# Altium integrated library ST Logic Decoder.IntLib: 88 symbols (part 1 of 2)
Pins are listed as number, name and electrical type; pins without a type are passive.

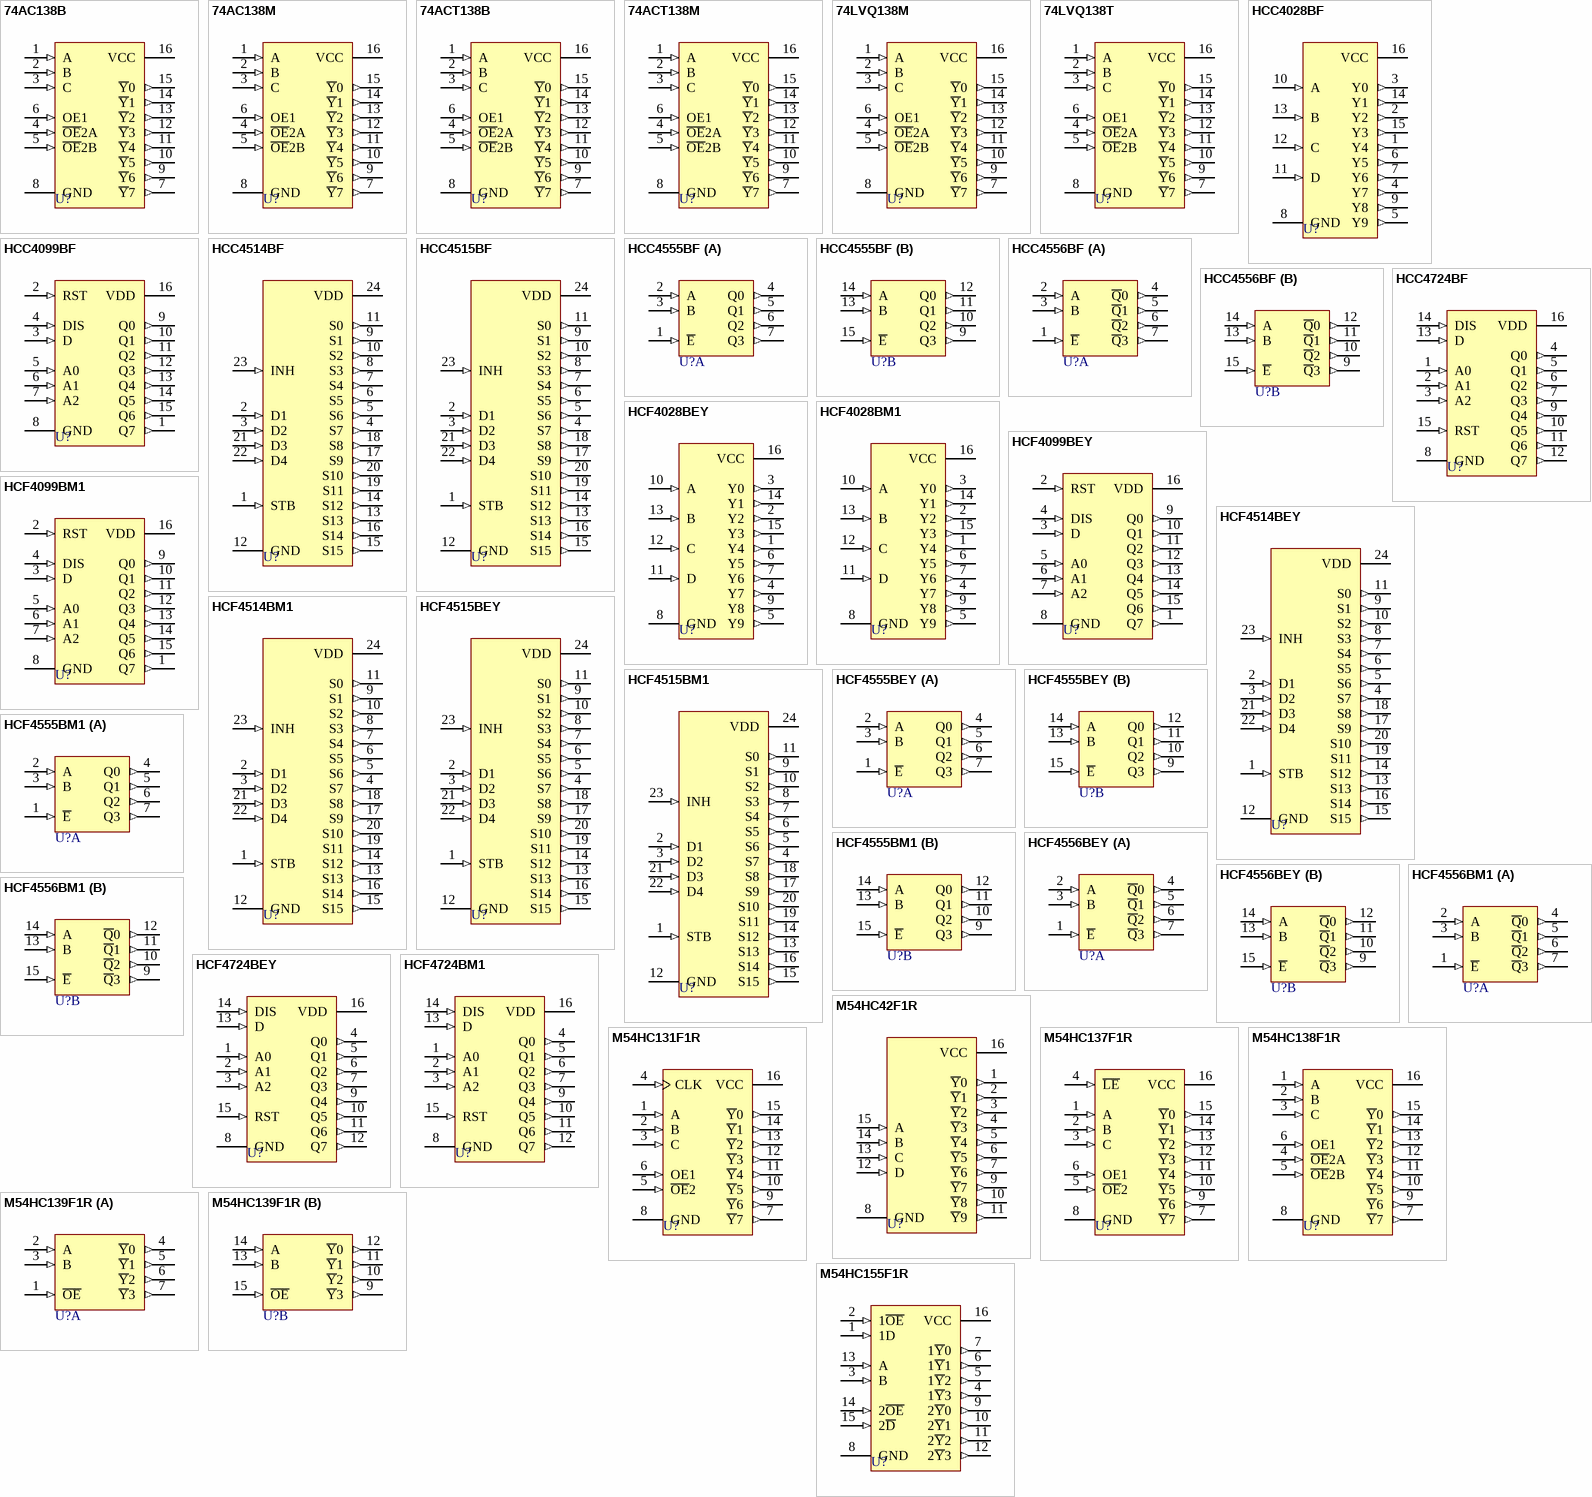
[diagram p0: symbols 74AC138B to M54HC155F1R]

## 74AC138B
designator U?
3-to-8 Line Decoder Inverting; Published: 8-Jun-2000; LatestRevisionDate: 17-Jul-2002; LatestRevisionNote: Re-released for DXP Platform.; DatasheetDocument: Apr-1997; PackageDocument: Apr-1996; PackageReference: DIP16; Publisher: Altium Limited
footprint DIP16 (DIP; 16 Leads; Row Spacing 7.62 mm; Pitch 2.54 mm)
signal-integrity model 74AC138B
pins: 1 A (in), 2 B (in), 3 C (in), 4 ~{OE}2A (in), 5 ~{OE}2B (in), 6 OE1 (in), 7 ~{Y}7 (out), 8 GND (power), 9 ~{Y}6 (out), 10 ~{Y}5 (out), 11 ~{Y}4 (out), 12 ~{Y}3 (out), 13 ~{Y}2 (out), 14 ~{Y}1 (out), 15 ~{Y}0 (out), 16 VCC (power)

## 74AC138M
designator U?
3-to-8 Line Decoder Inverting; Published: 8-Jun-2000; LatestRevisionDate: 17-Jul-2002; LatestRevisionNote: Re-released for DXP Platform.; DatasheetDocument: Apr-1997; PackageDocument: May-1998; PackageReference: SO16; Publisher: Altium Limited
footprint SO16 (Small Outline; 16 Leads; Body Width 3.9 mm; Pitch 1.27 mm)
signal-integrity model 74AC138M
pins: 1 A (in), 2 B (in), 3 C (in), 4 ~{OE}2A (in), 5 ~{OE}2B (in), 6 OE1 (in), 7 ~{Y}7 (out), 8 GND (power), 9 ~{Y}6 (out), 10 ~{Y}5 (out), 11 ~{Y}4 (out), 12 ~{Y}3 (out), 13 ~{Y}2 (out), 14 ~{Y}1 (out), 15 ~{Y}0 (out), 16 VCC (power)

## 74ACT138B
designator U?
3-to-8 Line Decoder Inverting; Published: 8-Jun-2000; LatestRevisionDate: 17-Jul-2002; LatestRevisionNote: Re-released for DXP Platform.; DatasheetDocument: Apr-1997; PackageDocument: Apr-1996; PackageReference: DIP16; Publisher: Altium Limited
footprint DIP16 (DIP; 16 Leads; Row Spacing 7.62 mm; Pitch 2.54 mm)
signal-integrity model 74ACT138B
pins: 1 A (in), 2 B (in), 3 C (in), 4 ~{OE}2A (in), 5 ~{OE}2B (in), 6 OE1 (in), 7 ~{Y}7 (out), 8 GND (power), 9 ~{Y}6 (out), 10 ~{Y}5 (out), 11 ~{Y}4 (out), 12 ~{Y}3 (out), 13 ~{Y}2 (out), 14 ~{Y}1 (out), 15 ~{Y}0 (out), 16 VCC (power)

## 74ACT138M
designator U?
3-to-8 Line Decoder Inverting; Published: 8-Jun-2000; LatestRevisionDate: 17-Jul-2002; LatestRevisionNote: Re-released for DXP Platform.; DatasheetDocument: Apr-1997; PackageDocument: May-1998; PackageReference: SO16; Publisher: Altium Limited
footprint SO16 (Small Outline; 16 Leads; Body Width 3.9 mm; Pitch 1.27 mm)
signal-integrity model 74ACT138M
pins: 1 A (in), 2 B (in), 3 C (in), 4 ~{OE}2A (in), 5 ~{OE}2B (in), 6 OE1 (in), 7 ~{Y}7 (out), 8 GND (power), 9 ~{Y}6 (out), 10 ~{Y}5 (out), 11 ~{Y}4 (out), 12 ~{Y}3 (out), 13 ~{Y}2 (out), 14 ~{Y}1 (out), 15 ~{Y}0 (out), 16 VCC (power)

## 74LVQ138M
designator U?
3-to-8 Line Decoder Inverting; Published: 8-Jun-2000; LatestRevisionDate: 17-Jul-2002; LatestRevisionNote: Re-released for DXP Platform.; DatasheetDocument: Feb-1999; PackageDocument: May-1998; PackageReference: SO16; Publisher: Altium Limited
footprint SO16 (Small Outline; 16 Leads; Body Width 3.9 mm; Pitch 1.27 mm)
pins: 1 A (in), 2 B (in), 3 C (in), 4 ~{OE}2A (in), 5 ~{OE}2B (in), 6 OE1 (in), 7 ~{Y}7 (out), 8 GND (power), 9 ~{Y}6 (out), 10 ~{Y}5 (out), 11 ~{Y}4 (out), 12 ~{Y}3 (out), 13 ~{Y}2 (out), 14 ~{Y}1 (out), 15 ~{Y}0 (out), 16 VCC (power)

## 74LVQ138T
designator U?
3-to-8 Line Decoder Inverting; Published: 8-Jun-2000; LatestRevisionDate: 17-Jul-2002; LatestRevisionNote: Re-released for DXP Platform.; DatasheetDocument: Feb-1999; PackageReference: TSSOP16A; Publisher: Altium Limited
footprint TSSOP16A (Shrink Small Outline; 16 Leads; Body Width 4.4 mm; Pitch 0.65 mm)
pins: 1 A (in), 2 B (in), 3 C (in), 4 ~{OE}2A (in), 5 ~{OE}2B (in), 6 OE1 (in), 7 ~{Y}7 (out), 8 GND (power), 9 ~{Y}6 (out), 10 ~{Y}5 (out), 11 ~{Y}4 (out), 12 ~{Y}3 (out), 13 ~{Y}2 (out), 14 ~{Y}1 (out), 15 ~{Y}0 (out), 16 VCC (power)

## HCC4028BF
designator U?
BCD-to-Decimal Decoder; Published: 8-Jun-2000; LatestRevisionDate: 17-Jul-2002; LatestRevisionNote: Re-released for DXP Platform.; DatasheetDocument: Jun-1989; PackageDocument: Apr-1996; PackageReference: DIP16; Publisher: Altium Limited
footprint DIP16 (DIP; 16 Leads; Row Spacing 7.62 mm; Pitch 2.54 mm)
simulation model HCC4028 (SIMCODE)
pins: 1 Y4 (out), 2 Y2 (out), 3 Y0 (out), 4 Y7 (out), 5 Y9 (out), 6 Y5 (out), 7 Y6 (out), 8 GND (power), 9 Y8 (out), 10 A (in), 11 D (in), 12 C (in), 13 B (in), 14 Y1 (out), 15 Y3 (out), 16 VCC (power)

## HCC4099BF
designator U?
8-Bit Addressable Latch; Published: 8-Jun-2000; LatestRevisionDate: 17-Jul-2002; LatestRevisionNote: Re-released for DXP Platform.; DatasheetDocument: Sep-1988; PackageDocument: Apr-1996; PackageReference: DIP16; Publisher: Altium Limited
footprint DIP16 (DIP; 16 Leads; Row Spacing 7.62 mm; Pitch 2.54 mm)
pins: 1 Q7 (out), 2 RST (in), 3 D (in), 4 DIS (in), 5 A0 (in), 6 A1 (in), 7 A2 (in), 8 GND (power), 9 Q0 (out), 10 Q1 (out), 11 Q2 (out), 12 Q3 (out), 13 Q4 (out), 14 Q5 (out), 15 Q6 (out), 16 VDD (power)

## HCC4514BF
designator U?
4-Bit Latch/4-to-16 Line Decoder; Published: 8-Jun-2000; LatestRevisionDate: 17-Jul-2002; LatestRevisionNote: Re-released for DXP Platform.; DatasheetDocument: Jun-1989; PackageDocument: Sep-1988; PackageReference: CDIP24; Publisher: Altium Limited
footprint CDIP24 (DIP; 24 Leads; Row Spacing 15.24 mm; Pitch 2.54 mm)
simulation model HCC4514 (SIMCODE)
pins: 1 STB (in), 2 D1 (in), 3 D2 (in), 4 S7 (out), 5 S6 (out), 6 S5 (out), 7 S4 (out), 8 S3 (out), 9 S1 (out), 10 S2 (out), 11 S0 (out), 12 GND (power), 13 S13 (out), 14 S12 (out), 15 S15 (out), 16 S14 (out), 17 S9 (out), 18 S8 (out), 19 S11 (out), 20 S10 (out), 21 D3 (in), 22 D4 (in), 23 INH (in), 24 VDD (power)

## HCC4515BF
designator U?
4-Bit Latch/4-to-16 Line Decoder; Published: 8-Jun-2000; LatestRevisionDate: 17-Jul-2002; LatestRevisionNote: Re-released for DXP Platform.; DatasheetDocument: Jun-1989; PackageDocument: Sep-1988; PackageReference: CDIP24; Publisher: Altium Limited
footprint CDIP24 (DIP; 24 Leads; Row Spacing 15.24 mm; Pitch 2.54 mm)
simulation model HCC4515 (SIMCODE)
pins: 1 STB (in), 2 D1 (in), 3 D2 (in), 4 S7 (out), 5 S6 (out), 6 S5 (out), 7 S4 (out), 8 S3 (out), 9 S1 (out), 10 S2 (out), 11 S0 (out), 12 GND (power), 13 S13 (out), 14 S12 (out), 15 S15 (out), 16 S14 (out), 17 S9 (out), 18 S8 (out), 19 S11 (out), 20 S10 (out), 21 D3 (in), 22 D4 (in), 23 INH (in), 24 VDD (power)

## HCC4555BF
designator U?
Dual Binary to 1 of 4 Decoder/Demultiplexers; Published: 8-Jun-2000; LatestRevisionDate: 17-Jul-2002; LatestRevisionNote: Re-released for DXP Platform.; DatasheetDocument: Jun-1989; PackageDocument: Apr-1996; PackageReference: DIP16; Publisher: Altium Limited
footprint DIP16 (DIP; 16 Leads; Row Spacing 7.62 mm; Pitch 2.54 mm)
simulation model HCC4555 (SIMCODE)
pins on every part: 8 GND (power) hidden to GND, 16 VDD (power) hidden to VDD
part A pins: 1 ~{E} (in), 2 A (in), 3 B (in), 4 Q0 (out), 5 Q1 (out), 6 Q2 (out), 7 Q3 (out)
part B pins: 9 Q3 (out), 10 Q2 (out), 11 Q1 (out), 12 Q0 (out), 13 B (in), 14 A (in), 15 ~{E} (in)

## HCC4556BF
designator U?
Dual Binary to 1 of 4 Decoder/Demultiplexers; Published: 8-Jun-2000; LatestRevisionDate: 17-Jul-2002; LatestRevisionNote: Re-released for DXP Platform.; DatasheetDocument: Jun-1989; PackageDocument: Apr-1996; PackageReference: DIP16; Publisher: Altium Limited
footprint DIP16 (DIP; 16 Leads; Row Spacing 7.62 mm; Pitch 2.54 mm)
simulation model HCC4556 (SIMCODE)
pins on every part: 8 GND (power) hidden to GND, 16 VDD (power) hidden to VDD
part A pins: 1 ~{E} (in), 2 A (in), 3 B (in), 4 ~{Q}0 (out), 5 ~{Q}1 (out), 6 ~{Q}2 (out), 7 ~{Q}3 (out)
part B pins: 9 ~{Q}3 (out), 10 ~{Q}2 (out), 11 ~{Q}1 (out), 12 ~{Q}0 (out), 13 B (in), 14 A (in), 15 ~{E} (in)

## HCC4724BF
designator U?
8-Bit Addressable Latch; Published: 8-Jun-2000; LatestRevisionDate: 17-Jul-2002; LatestRevisionNote: Re-released for DXP Platform.; DatasheetDocument: Sep-1988; PackageDocument: Apr-1996; PackageReference: DIP16; Publisher: Altium Limited
footprint DIP16 (DIP; 16 Leads; Row Spacing 7.62 mm; Pitch 2.54 mm)
pins: 1 A0 (in), 2 A1 (in), 3 A2 (in), 4 Q0 (out), 5 Q1 (out), 6 Q2 (out), 7 Q3 (out), 8 GND (power), 9 Q4 (out), 10 Q5 (out), 11 Q6 (out), 12 Q7 (out), 13 D (in), 14 DIS (in), 15 RST (in), 16 VDD (power)

## HCF4028BEY
designator U?
BCD-to-Decimal Decoder; Published: 8-Jun-2000; LatestRevisionDate: 17-Jul-2002; LatestRevisionNote: Re-released for DXP Platform.; DatasheetDocument: Jun-1989; PackageDocument: Apr-1996; PackageReference: DIP16; Publisher: Altium Limited
footprint DIP16 (DIP; 16 Leads; Row Spacing 7.62 mm; Pitch 2.54 mm)
simulation model HCF4028 (SIMCODE)
pins: 1 Y4 (out), 2 Y2 (out), 3 Y0 (out), 4 Y7 (out), 5 Y9 (out), 6 Y5 (out), 7 Y6 (out), 8 GND (power), 9 Y8 (out), 10 A (in), 11 D (in), 12 C (in), 13 B (in), 14 Y1 (out), 15 Y3 (out), 16 VCC (power)

## HCF4028BM1
designator U?
BCD-to-Decimal Decoder; Published: 8-Jun-2000; LatestRevisionDate: 17-Jul-2002; LatestRevisionNote: Re-released for DXP Platform.; DatasheetDocument: Jun-1989; PackageDocument: May-1998; PackageReference: SO16; Publisher: Altium Limited
footprint SO16 (Small Outline; 16 Leads; Body Width 3.9 mm; Pitch 1.27 mm)
simulation model HCF4028 (SIMCODE)
pins: 1 Y4 (out), 2 Y2 (out), 3 Y0 (out), 4 Y7 (out), 5 Y9 (out), 6 Y5 (out), 7 Y6 (out), 8 GND (power), 9 Y8 (out), 10 A (in), 11 D (in), 12 C (in), 13 B (in), 14 Y1 (out), 15 Y3 (out), 16 VCC (power)

## HCF4099BEY
designator U?
8-Bit Addressable Latch; Published: 8-Jun-2000; LatestRevisionDate: 17-Jul-2002; LatestRevisionNote: Re-released for DXP Platform.; DatasheetDocument: Sep-1988; PackageDocument: Apr-1996; PackageReference: DIP16; Publisher: Altium Limited
footprint DIP16 (DIP; 16 Leads; Row Spacing 7.62 mm; Pitch 2.54 mm)
pins: 1 Q7 (out), 2 RST (in), 3 D (in), 4 DIS (in), 5 A0 (in), 6 A1 (in), 7 A2 (in), 8 GND (power), 9 Q0 (out), 10 Q1 (out), 11 Q2 (out), 12 Q3 (out), 13 Q4 (out), 14 Q5 (out), 15 Q6 (out), 16 VDD (power)

## HCF4099BM1
designator U?
8-Bit Addressable Latch; Published: 8-Jun-2000; LatestRevisionDate: 17-Jul-2002; LatestRevisionNote: Re-released for DXP Platform.; DatasheetDocument: Sep-1988; PackageDocument: May-1998; PackageReference: SO16; Publisher: Altium Limited
footprint SO16 (Small Outline; 16 Leads; Body Width 3.9 mm; Pitch 1.27 mm)
pins: 1 Q7 (out), 2 RST (in), 3 D (in), 4 DIS (in), 5 A0 (in), 6 A1 (in), 7 A2 (in), 8 GND (power), 9 Q0 (out), 10 Q1 (out), 11 Q2 (out), 12 Q3 (out), 13 Q4 (out), 14 Q5 (out), 15 Q6 (out), 16 VDD (power)

## HCF4514BEY
designator U?
4-Bit Latch/4-to-16 Line Decoder; Published: 8-Jun-2000; LatestRevisionDate: 17-Jul-2002; LatestRevisionNote: Re-released for DXP Platform.; DatasheetDocument: Jun-1989; PackageDocument: Jan-1995; PackageReference: PDIP24; Publisher: Altium Limited
footprint PDIP24 (DIP; 24 Leads; Row Spacing 15.24 mm; Pitch 2.54 mm)
simulation model HCF4514 (SIMCODE)
pins: 1 STB (in), 2 D1 (in), 3 D2 (in), 4 S7 (out), 5 S6 (out), 6 S5 (out), 7 S4 (out), 8 S3 (out), 9 S1 (out), 10 S2 (out), 11 S0 (out), 12 GND (power), 13 S13 (out), 14 S12 (out), 15 S15 (out), 16 S14 (out), 17 S9 (out), 18 S8 (out), 19 S11 (out), 20 S10 (out), 21 D3 (in), 22 D4 (in), 23 INH (in), 24 VDD (power)

## HCF4514BM1
designator U?
4-Bit Latch/4-to-16 Line Decoder; Published: 8-Jun-2000; LatestRevisionDate: 17-Jul-2002; LatestRevisionNote: Re-released for DXP Platform.; DatasheetDocument: Jun-1989; PackageDocument: Oct-2001; PackageReference: SO24; Publisher: Altium Limited; Code_IPC: SO24W
footprint SO24 (Small Outline, Plastic; 24 Leads; Body Width 7.5 mm; Pitch 1.27 mm)
simulation model HCF4514 (SIMCODE)
pins: 1 STB (in), 2 D1 (in), 3 D2 (in), 4 S7 (out), 5 S6 (out), 6 S5 (out), 7 S4 (out), 8 S3 (out), 9 S1 (out), 10 S2 (out), 11 S0 (out), 12 GND (power), 13 S13 (out), 14 S12 (out), 15 S15 (out), 16 S14 (out), 17 S9 (out), 18 S8 (out), 19 S11 (out), 20 S10 (out), 21 D3 (in), 22 D4 (in), 23 INH (in), 24 VDD (power)

## HCF4515BEY
designator U?
4-Bit Latch/4-to-16 Line Decoder; Published: 8-Jun-2000; LatestRevisionDate: 17-Jul-2002; LatestRevisionNote: Re-released for DXP Platform.; DatasheetDocument: Jun-1989; PackageDocument: Jan-1995; PackageReference: PDIP24; Publisher: Altium Limited
footprint PDIP24 (DIP; 24 Leads; Row Spacing 15.24 mm; Pitch 2.54 mm)
simulation model HCF4515 (SIMCODE)
pins: 1 STB (in), 2 D1 (in), 3 D2 (in), 4 S7 (out), 5 S6 (out), 6 S5 (out), 7 S4 (out), 8 S3 (out), 9 S1 (out), 10 S2 (out), 11 S0 (out), 12 GND (power), 13 S13 (out), 14 S12 (out), 15 S15 (out), 16 S14 (out), 17 S9 (out), 18 S8 (out), 19 S11 (out), 20 S10 (out), 21 D3 (in), 22 D4 (in), 23 INH (in), 24 VDD (power)

## HCF4515BM1
designator U?
4-Bit Latch/4-to-16 Line Decoder; Published: 8-Jun-2000; LatestRevisionDate: 17-Jul-2002; LatestRevisionNote: Re-released for DXP Platform.; DatasheetDocument: Jun-1989; PackageDocument: Oct-2001; PackageReference: SO24; Publisher: Altium Limited; Code_IPC: SO24W
footprint SO24 (Small Outline, Plastic; 24 Leads; Body Width 7.5 mm; Pitch 1.27 mm)
simulation model HCF4515 (SIMCODE)
pins: 1 STB (in), 2 D1 (in), 3 D2 (in), 4 S7 (out), 5 S6 (out), 6 S5 (out), 7 S4 (out), 8 S3 (out), 9 S1 (out), 10 S2 (out), 11 S0 (out), 12 GND (power), 13 S13 (out), 14 S12 (out), 15 S15 (out), 16 S14 (out), 17 S9 (out), 18 S8 (out), 19 S11 (out), 20 S10 (out), 21 D3 (in), 22 D4 (in), 23 INH (in), 24 VDD (power)

## HCF4555BEY
designator U?
Dual Binary to 1 of 4 Decoder/Demultiplexers; Published: 8-Jun-2000; LatestRevisionDate: 17-Jul-2002; LatestRevisionNote: Re-released for DXP Platform.; DatasheetDocument: Jun-1989; PackageDocument: Apr-1996; PackageReference: DIP16; Publisher: Altium Limited
footprint DIP16 (DIP; 16 Leads; Row Spacing 7.62 mm; Pitch 2.54 mm)
simulation model HCF4555 (SIMCODE)
pins on every part: 8 GND (power) hidden to GND, 16 VDD (power) hidden to VDD
part A pins: 1 ~{E} (in), 2 A (in), 3 B (in), 4 Q0 (out), 5 Q1 (out), 6 Q2 (out), 7 Q3 (out)
part B pins: 9 Q3 (out), 10 Q2 (out), 11 Q1 (out), 12 Q0 (out), 13 B (in), 14 A (in), 15 ~{E} (in)

## HCF4555BM1
designator U?
Dual Binary to 1 of 4 Decoder/Demultiplexers; Published: 8-Jun-2000; LatestRevisionDate: 17-Jul-2002; LatestRevisionNote: Re-released for DXP Platform.; DatasheetDocument: Jun-1989; PackageDocument: May-1998; PackageReference: SO16; Publisher: Altium Limited
footprint SO16 (Small Outline; 16 Leads; Body Width 3.9 mm; Pitch 1.27 mm)
simulation model HCF4555 (SIMCODE)
pins on every part: 8 GND (power) hidden to GND, 16 VDD (power) hidden to VDD
part A pins: 1 ~{E} (in), 2 A (in), 3 B (in), 4 Q0 (out), 5 Q1 (out), 6 Q2 (out), 7 Q3 (out)
part B pins: 9 Q3 (out), 10 Q2 (out), 11 Q1 (out), 12 Q0 (out), 13 B (in), 14 A (in), 15 ~{E} (in)

## HCF4556BEY
designator U?
Dual Binary to 1 of 4 Decoder/Demultiplexers; Published: 8-Jun-2000; LatestRevisionDate: 17-Jul-2002; LatestRevisionNote: Re-released for DXP Platform.; DatasheetDocument: Jun-1989; PackageDocument: Apr-1996; PackageReference: DIP16; Publisher: Altium Limited
footprint DIP16 (DIP; 16 Leads; Row Spacing 7.62 mm; Pitch 2.54 mm)
simulation model HCF4556 (SIMCODE)
pins on every part: 8 GND (power) hidden to GND, 16 VDD (power) hidden to VDD
part A pins: 1 ~{E} (in), 2 A (in), 3 B (in), 4 ~{Q}0 (out), 5 ~{Q}1 (out), 6 ~{Q}2 (out), 7 ~{Q}3 (out)
part B pins: 9 ~{Q}3 (out), 10 ~{Q}2 (out), 11 ~{Q}1 (out), 12 ~{Q}0 (out), 13 B (in), 14 A (in), 15 ~{E} (in)

## HCF4556BM1
designator U?
Dual Binary to 1 of 4 Decoder/Demultiplexers; Published: 8-Jun-2000; LatestRevisionDate: 17-Jul-2002; LatestRevisionNote: Re-released for DXP Platform.; DatasheetDocument: Jun-1989; PackageDocument: May-1998; PackageReference: SO16; Publisher: Altium Limited
footprint SO16 (Small Outline; 16 Leads; Body Width 3.9 mm; Pitch 1.27 mm)
simulation model HCF4556 (SIMCODE)
pins on every part: 8 GND (power) hidden to GND, 16 VDD (power) hidden to VDD
part A pins: 1 ~{E} (in), 2 A (in), 3 B (in), 4 ~{Q}0 (out), 5 ~{Q}1 (out), 6 ~{Q}2 (out), 7 ~{Q}3 (out)
part B pins: 9 ~{Q}3 (out), 10 ~{Q}2 (out), 11 ~{Q}1 (out), 12 ~{Q}0 (out), 13 B (in), 14 A (in), 15 ~{E} (in)

## HCF4724BEY
designator U?
8-Bit Addressable Latch; Published: 8-Jun-2000; LatestRevisionDate: 17-Jul-2002; LatestRevisionNote: Re-released for DXP Platform.; DatasheetDocument: Sep-1988; PackageDocument: Apr-1996; PackageReference: DIP16; Publisher: Altium Limited
footprint DIP16 (DIP; 16 Leads; Row Spacing 7.62 mm; Pitch 2.54 mm)
pins: 1 A0 (in), 2 A1 (in), 3 A2 (in), 4 Q0 (out), 5 Q1 (out), 6 Q2 (out), 7 Q3 (out), 8 GND (power), 9 Q4 (out), 10 Q5 (out), 11 Q6 (out), 12 Q7 (out), 13 D (in), 14 DIS (in), 15 RST (in), 16 VDD (power)

## HCF4724BM1
designator U?
8-Bit Addressable Latch; Published: 8-Jun-2000; LatestRevisionDate: 17-Jul-2002; LatestRevisionNote: Re-released for DXP Platform.; DatasheetDocument: Sep-1988; PackageDocument: May-1998; PackageReference: SO16; Publisher: Altium Limited
footprint SO16 (Small Outline; 16 Leads; Body Width 3.9 mm; Pitch 1.27 mm)
pins: 1 A0 (in), 2 A1 (in), 3 A2 (in), 4 Q0 (out), 5 Q1 (out), 6 Q2 (out), 7 Q3 (out), 8 GND (power), 9 Q4 (out), 10 Q5 (out), 11 Q6 (out), 12 Q7 (out), 13 D (in), 14 DIS (in), 15 RST (in), 16 VDD (power)

## M54HC42F1R
designator U?
BCD-to-Decimal Decoder; Published: 8-Jun-2000; LatestRevisionDate: 17-Jul-2002; LatestRevisionNote: Re-released for DXP Platform.; DatasheetDocument: Dec-1992; PackageDocument: Apr-1996; PackageReference: DIP16; Publisher: Altium Limited
footprint DIP16 (DIP; 16 Leads; Row Spacing 7.62 mm; Pitch 2.54 mm)
signal-integrity model M54HC42F1R
pins: 1 ~{Y}0 (out), 2 ~{Y}1 (out), 3 ~{Y}2 (out), 4 ~{Y}3 (out), 5 ~{Y}4 (out), 6 ~{Y}5 (out), 7 ~{Y}6 (out), 8 GND (power), 9 ~{Y}7 (out), 10 ~{Y}8 (out), 11 ~{Y}9 (out), 12 D (in), 13 C (in), 14 B (in), 15 A (in), 16 VCC (power)

## M54HC131F1R
designator U?
3-to-8 Line Decoder/Latch; Published: 8-Jun-2000; LatestRevisionDate: 17-Jul-2002; LatestRevisionNote: Re-released for DXP Platform.; DatasheetDocument: Oct-1992; PackageDocument: Apr-1996; PackageReference: DIP16; Publisher: Altium Limited
footprint DIP16 (DIP; 16 Leads; Row Spacing 7.62 mm; Pitch 2.54 mm)
signal-integrity model M54HC131F1R
pins: 1 A (in), 2 B (in), 3 C (in), 4 CLK (in), 5 ~{OE}2 (in), 6 OE1 (in), 7 ~{Y}7 (out), 8 GND (power), 9 ~{Y}6 (out), 10 ~{Y}5 (out), 11 ~{Y}4 (out), 12 ~{Y}3 (out), 13 ~{Y}2 (out), 14 ~{Y}1 (out), 15 ~{Y}0 (out), 16 VCC (power)

## M54HC137F1R
designator U?
3-to-8 Line Decoder/Latch Inverting; Published: 8-Jun-2000; LatestRevisionDate: 17-Jul-2002; LatestRevisionNote: Re-released for DXP Platform.; DatasheetDocument: Feb-1993; PackageDocument: Apr-1996; PackageReference: DIP16; Publisher: Altium Limited
footprint DIP16 (DIP; 16 Leads; Row Spacing 7.62 mm; Pitch 2.54 mm)
signal-integrity model M54HC137F1R
pins: 1 A (in), 2 B (in), 3 C (in), 4 ~{LE} (in), 5 ~{OE}2 (in), 6 OE1 (in), 7 ~{Y}7 (out), 8 GND (power), 9 ~{Y}6 (out), 10 ~{Y}5 (out), 11 ~{Y}4 (out), 12 ~{Y}3 (out), 13 ~{Y}2 (out), 14 ~{Y}1 (out), 15 ~{Y}0 (out), 16 VCC (power)

## M54HC138F1R
designator U?
3-to-8 Line Decoder Inverting; Published: 8-Jun-2000; LatestRevisionDate: 17-Jul-2002; LatestRevisionNote: Re-released for DXP Platform.; DatasheetDocument: Oct-1992; PackageDocument: Apr-1996; PackageReference: DIP16; Publisher: Altium Limited
footprint DIP16 (DIP; 16 Leads; Row Spacing 7.62 mm; Pitch 2.54 mm)
signal-integrity model M54HC138F1R
pins: 1 A (in), 2 B (in), 3 C (in), 4 ~{OE}2A (in), 5 ~{OE}2B (in), 6 OE1 (in), 7 ~{Y}7 (out), 8 GND (power), 9 ~{Y}6 (out), 10 ~{Y}5 (out), 11 ~{Y}4 (out), 12 ~{Y}3 (out), 13 ~{Y}2 (out), 14 ~{Y}1 (out), 15 ~{Y}0 (out), 16 VCC (power)

## M54HC139F1R
designator U?
Dual 2-to-4 Decoder/Demultiplexer; Published: 8-Jun-2000; LatestRevisionDate: 17-Jul-2002; LatestRevisionNote: Re-released for DXP Platform.; DatasheetDocument: Feb-1993; PackageDocument: Apr-1996; PackageReference: DIP16; Publisher: Altium Limited
footprint DIP16 (DIP; 16 Leads; Row Spacing 7.62 mm; Pitch 2.54 mm)
signal-integrity model M54HC139F1R
pins on every part: 8 GND (power) hidden to GND, 16 VCC (power) hidden to VCC
part A pins: 1 ~{OE} (in), 2 A (in), 3 B (in), 4 ~{Y}0 (out), 5 ~{Y}1 (out), 6 ~{Y}2 (out), 7 ~{Y}3 (out)
part B pins: 9 ~{Y}3 (out), 10 ~{Y}2 (out), 11 ~{Y}1 (out), 12 ~{Y}0 (out), 13 B (in), 14 A (in), 15 ~{OE} (in)

## M54HC155F1R
designator U?
Dual 2-to-4 Line Decoder, 3-to-8 Line Decoder; Published: 8-Jun-2000; LatestRevisionDate: 17-Jul-2002; LatestRevisionNote: Re-released for DXP Platform.; DatasheetDocument: Dec-1992; PackageDocument: Apr-1996; PackageReference: DIP16; Publisher: Altium Limited
footprint DIP16 (DIP; 16 Leads; Row Spacing 7.62 mm; Pitch 2.54 mm)
signal-integrity model M54HC155F1R
pins: 1 1D (in), 2 1~{OE} (in), 3 B (in), 4 1~{Y}3 (out), 5 1~{Y}2 (out), 6 1~{Y}1 (out), 7 1~{Y}0 (out), 8 GND (power), 9 2~{Y}0 (out), 10 2~{Y}1 (out), 11 2~{Y}2 (out), 12 2~{Y}3 (out), 13 A (in), 14 2~{OE} (in), 15 2~{D} (in), 16 VCC (power)

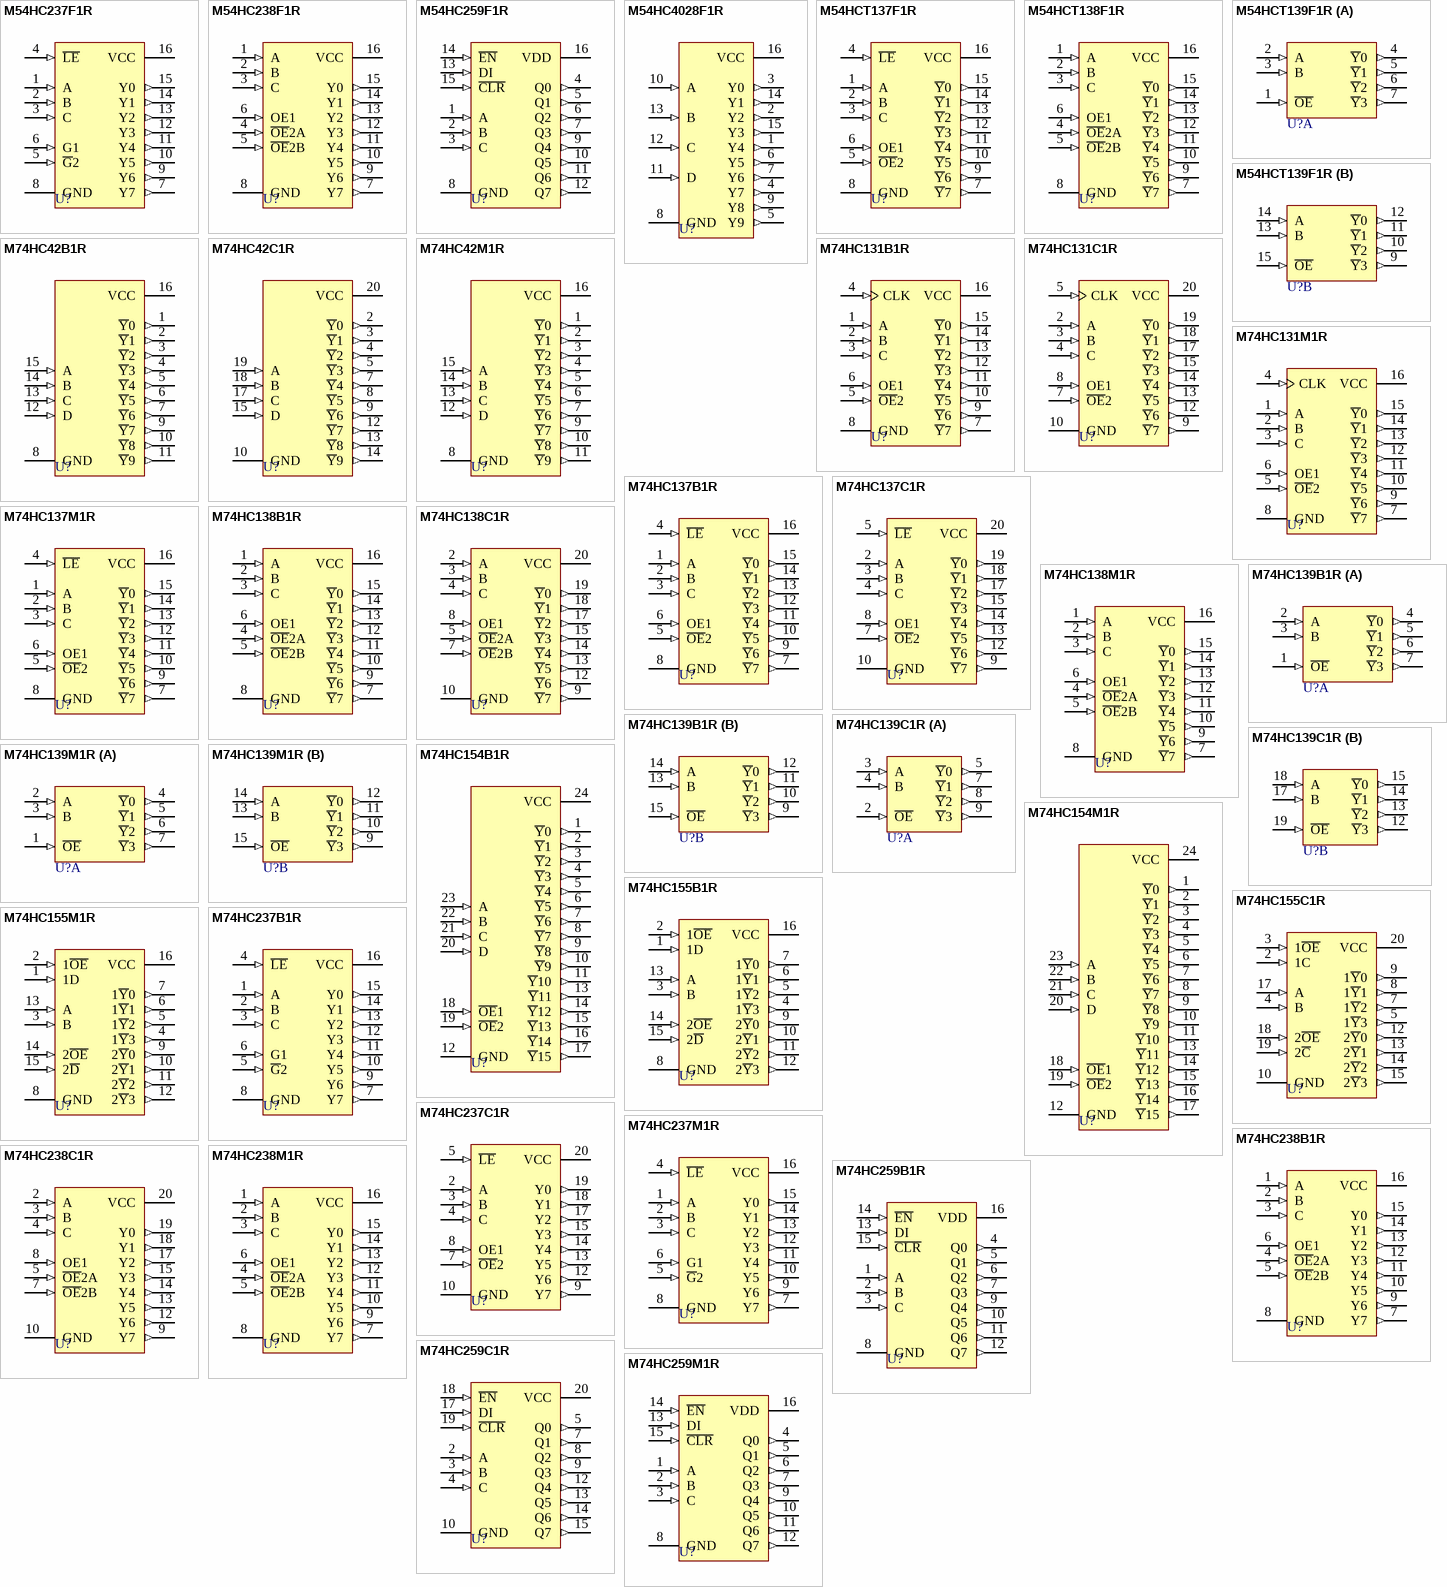
[diagram p1: symbols M54HC237F1R to M74HC259M1R]

## M54HC237F1R
designator U?
3-to-8 Line Decoder Latch; Published: 8-Jun-2000; LatestRevisionDate: 17-Jul-2002; LatestRevisionNote: Re-released for DXP Platform.; DatasheetDocument: Oct-1992; PackageDocument: Apr-1996; PackageReference: DIP16; Publisher: Altium Limited
footprint DIP16 (DIP; 16 Leads; Row Spacing 7.62 mm; Pitch 2.54 mm)
signal-integrity model M54HC237F1R
pins: 1 A (in), 2 B (in), 3 C (in), 4 ~{LE} (in), 5 ~{G}2 (in), 6 G1 (in), 7 Y7 (out), 8 GND (power), 9 Y6 (out), 10 Y5 (out), 11 Y4 (out), 12 Y3 (out), 13 Y2 (out), 14 Y1 (out), 15 Y0 (out), 16 VCC (power)

## M54HC238F1R
designator U?
3-to-8 Line Decoder; Published: 8-Jun-2000; LatestRevisionDate: 17-Jul-2002; LatestRevisionNote: Re-released for DXP Platform.; DatasheetDocument: Oct-1993; PackageDocument: Apr-1996; PackageReference: DIP16; Publisher: Altium Limited
footprint DIP16 (DIP; 16 Leads; Row Spacing 7.62 mm; Pitch 2.54 mm)
signal-integrity model M54HC238F1R
pins: 1 A (in), 2 B (in), 3 C (in), 4 ~{OE}2A (in), 5 ~{OE}2B (in), 6 OE1 (in), 7 Y7 (out), 8 GND (power), 9 Y6 (out), 10 Y5 (out), 11 Y4 (out), 12 Y3 (out), 13 Y2 (out), 14 Y1 (out), 15 Y0 (out), 16 VCC (power)

## M54HC259F1R
designator U?
8-Bit Addressable Latch; Published: 8-Jun-2000; LatestRevisionDate: 17-Jul-2002; LatestRevisionNote: Re-released for DXP Platform.; DatasheetDocument: Oct-1992; PackageDocument: Apr-1996; PackageReference: DIP16; Publisher: Altium Limited
footprint DIP16 (DIP; 16 Leads; Row Spacing 7.62 mm; Pitch 2.54 mm)
signal-integrity model M54HC259F1R
pins: 1 A (in), 2 B (in), 3 C (in), 4 Q0 (out), 5 Q1 (out), 6 Q2 (out), 7 Q3 (out), 8 GND (power), 9 Q4 (out), 10 Q5 (out), 11 Q6 (out), 12 Q7 (out), 13 DI (in), 14 ~{EN} (in), 15 ~{CLR} (in), 16 VDD (power)

## M54HC4028F1R
designator U?
BCD-to-Decimal Decoder; Published: 8-Jun-2000; LatestRevisionDate: 17-Jul-2002; LatestRevisionNote: Re-released for DXP Platform.; DatasheetDocument: Oct-1992; PackageDocument: Apr-1996; PackageReference: DIP16; Publisher: Altium Limited
footprint DIP16 (DIP; 16 Leads; Row Spacing 7.62 mm; Pitch 2.54 mm)
signal-integrity model M54HC4028F1R
pins: 1 Y4 (out), 2 Y2 (out), 3 Y0 (out), 4 Y7 (out), 5 Y9 (out), 6 Y5 (out), 7 Y6 (out), 8 GND (power), 9 Y8 (out), 10 A (in), 11 D (in), 12 C (in), 13 B (in), 14 Y1 (out), 15 Y3 (out), 16 VCC (power)

## M54HCT137F1R
designator U?
3-to-8 Line Decoder/Latch Inverting; Published: 8-Jun-2000; LatestRevisionDate: 17-Jul-2002; LatestRevisionNote: Re-released for DXP Platform.; DatasheetDocument: Feb-1993; PackageDocument: Apr-1996; PackageReference: DIP16; Publisher: Altium Limited
footprint DIP16 (DIP; 16 Leads; Row Spacing 7.62 mm; Pitch 2.54 mm)
signal-integrity model M54HCT137F1R
pins: 1 A (in), 2 B (in), 3 C (in), 4 ~{LE} (in), 5 ~{OE}2 (in), 6 OE1 (in), 7 ~{Y}7 (out), 8 GND (power), 9 ~{Y}6 (out), 10 ~{Y}5 (out), 11 ~{Y}4 (out), 12 ~{Y}3 (out), 13 ~{Y}2 (out), 14 ~{Y}1 (out), 15 ~{Y}0 (out), 16 VCC (power)

## M54HCT138F1R
designator U?
3-to-8 Line Decoder Inverting; Published: 8-Jun-2000; LatestRevisionDate: 17-Jul-2002; LatestRevisionNote: Re-released for DXP Platform.; DatasheetDocument: Feb-1993; PackageDocument: Apr-1996; PackageReference: DIP16; Publisher: Altium Limited
footprint DIP16 (DIP; 16 Leads; Row Spacing 7.62 mm; Pitch 2.54 mm)
signal-integrity model M54HCT138F1R
pins: 1 A (in), 2 B (in), 3 C (in), 4 ~{OE}2A (in), 5 ~{OE}2B (in), 6 OE1 (in), 7 ~{Y}7 (out), 8 GND (power), 9 ~{Y}6 (out), 10 ~{Y}5 (out), 11 ~{Y}4 (out), 12 ~{Y}3 (out), 13 ~{Y}2 (out), 14 ~{Y}1 (out), 15 ~{Y}0 (out), 16 VCC (power)

## M54HCT139F1R
designator U?
Dual 2-to-4 Decoder/Demultiplexer; Published: 8-Jun-2000; LatestRevisionDate: 17-Jul-2002; LatestRevisionNote: Re-released for DXP Platform.; DatasheetDocument: Feb-1993; PackageDocument: Apr-1996; PackageReference: DIP16; Publisher: Altium Limited
footprint DIP16 (DIP; 16 Leads; Row Spacing 7.62 mm; Pitch 2.54 mm)
signal-integrity model M54HCT139F1R
pins on every part: 8 GND (power) hidden to GND, 16 VCC (power) hidden to VCC
part A pins: 1 ~{OE} (in), 2 A (in), 3 B (in), 4 ~{Y}0 (out), 5 ~{Y}1 (out), 6 ~{Y}2 (out), 7 ~{Y}3 (out)
part B pins: 9 ~{Y}3 (out), 10 ~{Y}2 (out), 11 ~{Y}1 (out), 12 ~{Y}0 (out), 13 B (in), 14 A (in), 15 ~{OE} (in)

## M74HC42B1R
designator U?
BCD-to-Decimal Decoder; Published: 8-Jun-2000; LatestRevisionDate: 17-Jul-2002; LatestRevisionNote: Re-released for DXP Platform.; DatasheetDocument: Dec-1992; PackageDocument: Apr-1996; PackageReference: DIP16; Publisher: Altium Limited
footprint DIP16 (DIP; 16 Leads; Row Spacing 7.62 mm; Pitch 2.54 mm)
signal-integrity model M74HC42B1R
pins: 1 ~{Y}0 (out), 2 ~{Y}1 (out), 3 ~{Y}2 (out), 4 ~{Y}3 (out), 5 ~{Y}4 (out), 6 ~{Y}5 (out), 7 ~{Y}6 (out), 8 GND (power), 9 ~{Y}7 (out), 10 ~{Y}8 (out), 11 ~{Y}9 (out), 12 D (in), 13 C (in), 14 B (in), 15 A (in), 16 VCC (power)

## M74HC42C1R
designator U?
BCD-to-Decimal Decoder; Note: Pins 1, 6, 11 and 16 are not connected and not drawn.; Published: 8-Jun-2000; LatestRevisionDate: 17-Jul-2002; LatestRevisionNote: Re-released for DXP Platform.; DatasheetDocument: Dec-1992; PackageDocument: Mar-1992; PackageReference: PLCC20; Publisher: Altium Limited
footprint PLCC20 (Leaded Chip Carrier; 20 Leads; Body 9 x 9 mm)
signal-integrity model M74HC42C1R
pins: 2 ~{Y}0 (out), 3 ~{Y}1 (out), 4 ~{Y}2 (out), 5 ~{Y}3 (out), 7 ~{Y}4 (out), 8 ~{Y}5 (out), 9 ~{Y}6 (out), 10 GND (power), 12 ~{Y}7 (out), 13 ~{Y}8 (out), 14 ~{Y}9 (out), 15 D (in), 17 C (in), 18 B (in), 19 A (in), 20 VCC (power)

## M74HC42M1R
designator U?
BCD-to-Decimal Decoder; Published: 8-Jun-2000; LatestRevisionDate: 17-Jul-2002; LatestRevisionNote: Re-released for DXP Platform.; DatasheetDocument: Dec-1992; PackageDocument: May-1998; PackageReference: SO16; Publisher: Altium Limited
footprint SO16 (Small Outline; 16 Leads; Body Width 3.9 mm; Pitch 1.27 mm)
signal-integrity model M74HC42M1R
pins: 1 ~{Y}0 (out), 2 ~{Y}1 (out), 3 ~{Y}2 (out), 4 ~{Y}3 (out), 5 ~{Y}4 (out), 6 ~{Y}5 (out), 7 ~{Y}6 (out), 8 GND (power), 9 ~{Y}7 (out), 10 ~{Y}8 (out), 11 ~{Y}9 (out), 12 D (in), 13 C (in), 14 B (in), 15 A (in), 16 VCC (power)

## M74HC131B1R
designator U?
3-to-8 Line Decoder/Latch; Published: 8-Jun-2000; LatestRevisionDate: 17-Jul-2002; LatestRevisionNote: Re-released for DXP Platform.; DatasheetDocument: Oct-1992; PackageDocument: Apr-1996; PackageReference: DIP16; Publisher: Altium Limited
footprint DIP16 (DIP; 16 Leads; Row Spacing 7.62 mm; Pitch 2.54 mm)
signal-integrity model M74HC131B1R
pins: 1 A (in), 2 B (in), 3 C (in), 4 CLK (in), 5 ~{OE}2 (in), 6 OE1 (in), 7 ~{Y}7 (out), 8 GND (power), 9 ~{Y}6 (out), 10 ~{Y}5 (out), 11 ~{Y}4 (out), 12 ~{Y}3 (out), 13 ~{Y}2 (out), 14 ~{Y}1 (out), 15 ~{Y}0 (out), 16 VCC (power)

## M74HC131C1R
designator U?
3-to-8 Line Decoder/Latch; Note: Pins 1, 6, 11 and 16 are not connected and not drawn.; Published: 8-Jun-2000; LatestRevisionDate: 17-Jul-2002; LatestRevisionNote: Re-released for DXP Platform.; DatasheetDocument: Oct-1992; PackageDocument: Mar-1992; PackageReference: PLCC20; Publisher: Altium Limited
footprint PLCC20 (Leaded Chip Carrier; 20 Leads; Body 9 x 9 mm)
signal-integrity model M74HC131C1R
pins: 2 A (in), 3 B (in), 4 C (in), 5 CLK (in), 7 ~{OE}2 (in), 8 OE1 (in), 9 ~{Y}7 (out), 10 GND (power), 12 ~{Y}6 (out), 13 ~{Y}5 (out), 14 ~{Y}4 (out), 15 ~{Y}3 (out), 17 ~{Y}2 (out), 18 ~{Y}1 (out), 19 ~{Y}0 (out), 20 VCC (power)

## M74HC131M1R
designator U?
3-to-8 Line Decoder/Latch; Published: 8-Jun-2000; LatestRevisionDate: 17-Jul-2002; LatestRevisionNote: Re-released for DXP Platform.; DatasheetDocument: Oct-1992; PackageDocument: May-1998; PackageReference: SO16; Publisher: Altium Limited
footprint SO16 (Small Outline; 16 Leads; Body Width 3.9 mm; Pitch 1.27 mm)
signal-integrity model M74HC131M1R
pins: 1 A (in), 2 B (in), 3 C (in), 4 CLK (in), 5 ~{OE}2 (in), 6 OE1 (in), 7 ~{Y}7 (out), 8 GND (power), 9 ~{Y}6 (out), 10 ~{Y}5 (out), 11 ~{Y}4 (out), 12 ~{Y}3 (out), 13 ~{Y}2 (out), 14 ~{Y}1 (out), 15 ~{Y}0 (out), 16 VCC (power)

## M74HC137B1R
designator U?
3-to-8 Line Decoder/Latch Inverting; Published: 8-Jun-2000; LatestRevisionDate: 17-Jul-2002; LatestRevisionNote: Re-released for DXP Platform.; DatasheetDocument: Feb-1993; PackageDocument: Apr-1996; PackageReference: DIP16; Publisher: Altium Limited
footprint DIP16 (DIP; 16 Leads; Row Spacing 7.62 mm; Pitch 2.54 mm)
signal-integrity model M74HC137B1R
pins: 1 A (in), 2 B (in), 3 C (in), 4 ~{LE} (in), 5 ~{OE}2 (in), 6 OE1 (in), 7 ~{Y}7 (out), 8 GND (power), 9 ~{Y}6 (out), 10 ~{Y}5 (out), 11 ~{Y}4 (out), 12 ~{Y}3 (out), 13 ~{Y}2 (out), 14 ~{Y}1 (out), 15 ~{Y}0 (out), 16 VCC (power)

## M74HC137C1R
designator U?
3-to-8 Line Decoder/Latch Inverting; Note: Pins 1, 6, 11 and 16 are not connected and not drawn.; Published: 8-Jun-2000; LatestRevisionDate: 17-Jul-2002; LatestRevisionNote: Re-released for DXP Platform.; DatasheetDocument: Feb-1993; PackageDocument: Mar-1992; PackageReference: PLCC20; Publisher: Altium Limited
footprint PLCC20 (Leaded Chip Carrier; 20 Leads; Body 9 x 9 mm)
signal-integrity model M74HC137C1R
pins: 2 A (in), 3 B (in), 4 C (in), 5 ~{LE} (in), 7 ~{OE}2 (in), 8 OE1 (in), 9 ~{Y}7 (out), 10 GND (power), 12 ~{Y}6 (out), 13 ~{Y}5 (out), 14 ~{Y}4 (out), 15 ~{Y}3 (out), 17 ~{Y}2 (out), 18 ~{Y}1 (out), 19 ~{Y}0 (out), 20 VCC (power)

## M74HC137M1R
designator U?
3-to-8 Line Decoder/Latch Inverting; Published: 8-Jun-2000; LatestRevisionDate: 17-Jul-2002; LatestRevisionNote: Re-released for DXP Platform.; DatasheetDocument: Feb-1993; PackageDocument: May-1998; PackageReference: SO16; Publisher: Altium Limited
footprint SO16 (Small Outline; 16 Leads; Body Width 3.9 mm; Pitch 1.27 mm)
signal-integrity model M74HC137M1R
pins: 1 A (in), 2 B (in), 3 C (in), 4 ~{LE} (in), 5 ~{OE}2 (in), 6 OE1 (in), 7 ~{Y}7 (out), 8 GND (power), 9 ~{Y}6 (out), 10 ~{Y}5 (out), 11 ~{Y}4 (out), 12 ~{Y}3 (out), 13 ~{Y}2 (out), 14 ~{Y}1 (out), 15 ~{Y}0 (out), 16 VCC (power)

## M74HC138B1R
designator U?
3-to-8 Line Decoder Inverting; Published: 8-Jun-2000; LatestRevisionDate: 17-Jul-2002; LatestRevisionNote: Re-released for DXP Platform.; DatasheetDocument: Oct-1992; PackageDocument: Apr-1996; PackageReference: DIP16; Publisher: Altium Limited
footprint DIP16 (DIP; 16 Leads; Row Spacing 7.62 mm; Pitch 2.54 mm)
signal-integrity model M74HC138B1R
pins: 1 A (in), 2 B (in), 3 C (in), 4 ~{OE}2A (in), 5 ~{OE}2B (in), 6 OE1 (in), 7 ~{Y}7 (out), 8 GND (power), 9 ~{Y}6 (out), 10 ~{Y}5 (out), 11 ~{Y}4 (out), 12 ~{Y}3 (out), 13 ~{Y}2 (out), 14 ~{Y}1 (out), 15 ~{Y}0 (out), 16 VCC (power)

## M74HC138C1R
designator U?
3-to-8 Line Decoder Inverting; Note: Pins 1, 6, 11 and 16 are not connected and not drawn.; Published: 8-Jun-2000; LatestRevisionDate: 17-Jul-2002; LatestRevisionNote: Re-released for DXP Platform.; DatasheetDocument: Oct-1992; PackageDocument: Mar-1992; PackageReference: PLCC20; Publisher: Altium Limited
footprint PLCC20 (Leaded Chip Carrier; 20 Leads; Body 9 x 9 mm)
signal-integrity model M74HC138C1R
pins: 2 A (in), 3 B (in), 4 C (in), 5 ~{OE}2A (in), 7 ~{OE}2B (in), 8 OE1 (in), 9 ~{Y}7 (out), 10 GND (power), 12 ~{Y}6 (out), 13 ~{Y}5 (out), 14 ~{Y}4 (out), 15 ~{Y}3 (out), 17 ~{Y}2 (out), 18 ~{Y}1 (out), 19 ~{Y}0 (out), 20 VCC (power)

## M74HC138M1R
designator U?
3-to-8 Line Decoder Inverting; Published: 8-Jun-2000; LatestRevisionDate: 17-Jul-2002; LatestRevisionNote: Re-released for DXP Platform.; DatasheetDocument: Oct-1992; PackageDocument: May-1998; PackageReference: SO16; Publisher: Altium Limited
footprint SO16 (Small Outline; 16 Leads; Body Width 3.9 mm; Pitch 1.27 mm)
signal-integrity model M74HC138M1R
pins: 1 A (in), 2 B (in), 3 C (in), 4 ~{OE}2A (in), 5 ~{OE}2B (in), 6 OE1 (in), 7 ~{Y}7 (out), 8 GND (power), 9 ~{Y}6 (out), 10 ~{Y}5 (out), 11 ~{Y}4 (out), 12 ~{Y}3 (out), 13 ~{Y}2 (out), 14 ~{Y}1 (out), 15 ~{Y}0 (out), 16 VCC (power)

## M74HC139B1R
designator U?
Dual 2-to-4 Decoder/Demultiplexer; Published: 8-Jun-2000; LatestRevisionDate: 17-Jul-2002; LatestRevisionNote: Re-released for DXP Platform.; DatasheetDocument: Feb-1993; PackageDocument: Apr-1996; PackageReference: DIP16; Publisher: Altium Limited
footprint DIP16 (DIP; 16 Leads; Row Spacing 7.62 mm; Pitch 2.54 mm)
signal-integrity model M74HC139B1R
pins on every part: 8 GND (power) hidden to GND, 16 VCC (power) hidden to VCC
part A pins: 1 ~{OE} (in), 2 A (in), 3 B (in), 4 ~{Y}0 (out), 5 ~{Y}1 (out), 6 ~{Y}2 (out), 7 ~{Y}3 (out)
part B pins: 9 ~{Y}3 (out), 10 ~{Y}2 (out), 11 ~{Y}1 (out), 12 ~{Y}0 (out), 13 B (in), 14 A (in), 15 ~{OE} (in)

## M74HC139C1R
designator U?
Dual 2-to-4 Decoder/Demultiplexer; Note: Pins 1, 6, 11 and 16 are not connected and not drawn.; Published: 8-Jun-2000; LatestRevisionDate: 17-Jul-2002; LatestRevisionNote: Re-released for DXP Platform.; DatasheetDocument: Feb-1993; PackageDocument: Mar-1992; PackageReference: PLCC20; Publisher: Altium Limited
footprint PLCC20 (Leaded Chip Carrier; 20 Leads; Body 9 x 9 mm)
signal-integrity model M74HC139C1R
pins on every part: 10 GND (power) hidden to GND, 20 VCC (power) hidden to VCC
part A pins: 2 ~{OE} (in), 3 A (in), 4 B (in), 5 ~{Y}0 (out), 7 ~{Y}1 (out), 8 ~{Y}2 (out), 9 ~{Y}3 (out)
part B pins: 12 ~{Y}3 (out), 13 ~{Y}2 (out), 14 ~{Y}1 (out), 15 ~{Y}0 (out), 17 B (in), 18 A (in), 19 ~{OE} (in)

## M74HC139M1R
designator U?
Dual 2-to-4 Decoder/Demultiplexer; Published: 8-Jun-2000; LatestRevisionDate: 17-Jul-2002; LatestRevisionNote: Re-released for DXP Platform.; DatasheetDocument: Feb-1993; PackageDocument: May-1998; PackageReference: SO16; Publisher: Altium Limited
footprint SO16 (Small Outline; 16 Leads; Body Width 3.9 mm; Pitch 1.27 mm)
signal-integrity model M74HC139M1R
pins on every part: 8 GND (power) hidden to GND, 16 VCC (power) hidden to VCC
part A pins: 1 ~{OE} (in), 2 A (in), 3 B (in), 4 ~{Y}0 (out), 5 ~{Y}1 (out), 6 ~{Y}2 (out), 7 ~{Y}3 (out)
part B pins: 9 ~{Y}3 (out), 10 ~{Y}2 (out), 11 ~{Y}1 (out), 12 ~{Y}0 (out), 13 B (in), 14 A (in), 15 ~{OE} (in)

## M74HC154B1R
designator U?
4-to-16 Line Decoder/Demultiplexer; Published: 8-Jun-2000; LatestRevisionDate: 17-Jul-2002; LatestRevisionNote: Re-released for DXP Platform.; DatasheetDocument: Oct-1993; PackageDocument: Jan-1995; PackageReference: PDIP24; Publisher: Altium Limited
footprint PDIP24 (DIP; 24 Leads; Row Spacing 15.24 mm; Pitch 2.54 mm)
signal-integrity model M74HC154B1R
pins: 1 ~{Y}0 (out), 2 ~{Y}1 (out), 3 ~{Y}2 (out), 4 ~{Y}3 (out), 5 ~{Y}4 (out), 6 ~{Y}5 (out), 7 ~{Y}6 (out), 8 ~{Y}7 (out), 9 ~{Y}8 (out), 10 ~{Y}9 (out), 11 ~{Y}10 (out), 12 GND (power), 13 ~{Y}11 (out), 14 ~{Y}12 (out), 15 ~{Y}13 (out), 16 ~{Y}14 (out), 17 ~{Y}15 (out), 18 ~{OE}1 (in), 19 ~{OE}2 (in), 20 D (in), 21 C (in), 22 B (in), 23 A (in), 24 VCC (power)

## M74HC154M1R
designator U?
4-to-16 Line Decoder/Demultiplexer; Published: 8-Jun-2000; LatestRevisionDate: 17-Jul-2002; LatestRevisionNote: Re-released for DXP Platform.; DatasheetDocument: Oct-1993; PackageDocument: Oct-2001; PackageReference: SO24; Publisher: Altium Limited; Code_IPC: SO24W
footprint SO24 (Small Outline, Plastic; 24 Leads; Body Width 7.5 mm; Pitch 1.27 mm)
signal-integrity model M74HC154M1R
pins: 1 ~{Y}0 (out), 2 ~{Y}1 (out), 3 ~{Y}2 (out), 4 ~{Y}3 (out), 5 ~{Y}4 (out), 6 ~{Y}5 (out), 7 ~{Y}6 (out), 8 ~{Y}7 (out), 9 ~{Y}8 (out), 10 ~{Y}9 (out), 11 ~{Y}10 (out), 12 GND (power), 13 ~{Y}11 (out), 14 ~{Y}12 (out), 15 ~{Y}13 (out), 16 ~{Y}14 (out), 17 ~{Y}15 (out), 18 ~{OE}1 (in), 19 ~{OE}2 (in), 20 D (in), 21 C (in), 22 B (in), 23 A (in), 24 VCC (power)

## M74HC155B1R
designator U?
Dual 2-to-4 Line Decoder, 3-to-8 Line Decoder; Published: 8-Jun-2000; LatestRevisionDate: 17-Jul-2002; LatestRevisionNote: Re-released for DXP Platform.; DatasheetDocument: Dec-1992; PackageDocument: Apr-1996; PackageReference: DIP16; Publisher: Altium Limited
footprint DIP16 (DIP; 16 Leads; Row Spacing 7.62 mm; Pitch 2.54 mm)
signal-integrity model M74HC155B1R
pins: 1 1D (in), 2 1~{OE} (in), 3 B (in), 4 1~{Y}3 (out), 5 1~{Y}2 (out), 6 1~{Y}1 (out), 7 1~{Y}0 (out), 8 GND (power), 9 2~{Y}0 (out), 10 2~{Y}1 (out), 11 2~{Y}2 (out), 12 2~{Y}3 (out), 13 A (in), 14 2~{OE} (in), 15 2~{D} (in), 16 VCC (power)

## M74HC155C1R
designator U?
Dual 2-to-4 Line Decoder, 3-to-8 Line Decoder; Note: Pins 1, 6, 11 and 16 are not connected and not drawn.; Published: 8-Jun-2000; LatestRevisionDate: 17-Jul-2002; LatestRevisionNote: Re-released for DXP Platform.; DatasheetDocument: Dec-1992; PackageDocument: Mar-1992; PackageReference: PLCC20; Publisher: Altium Limited
footprint PLCC20 (Leaded Chip Carrier; 20 Leads; Body 9 x 9 mm)
signal-integrity model M74HC155C1R
pins: 2 1C (in), 3 1~{OE} (in), 4 B (in), 5 1~{Y}3 (out), 7 1~{Y}2 (out), 8 1~{Y}1 (out), 9 1~{Y}0 (out), 10 GND (power), 12 2~{Y}0 (out), 13 2~{Y}1 (out), 14 2~{Y}2 (out), 15 2~{Y}3 (out), 17 A (in), 18 2~{OE} (in), 19 2~{C} (in), 20 VCC (power)

## M74HC155M1R
designator U?
Dual 2-to-4 Line Decoder, 3-to-8 Line Decoder; Published: 8-Jun-2000; LatestRevisionDate: 17-Jul-2002; LatestRevisionNote: Re-released for DXP Platform.; DatasheetDocument: Dec-1992; PackageDocument: May-1998; PackageReference: SO16; Publisher: Altium Limited
footprint SO16 (Small Outline; 16 Leads; Body Width 3.9 mm; Pitch 1.27 mm)
signal-integrity model M74HC155M1R
pins: 1 1D (in), 2 1~{OE} (in), 3 B (in), 4 1~{Y}3 (out), 5 1~{Y}2 (out), 6 1~{Y}1 (out), 7 1~{Y}0 (out), 8 GND (power), 9 2~{Y}0 (out), 10 2~{Y}1 (out), 11 2~{Y}2 (out), 12 2~{Y}3 (out), 13 A (in), 14 2~{OE} (in), 15 2~{D} (in), 16 VCC (power)

## M74HC237B1R
designator U?
3-to-8 Line Decoder Latch; Published: 8-Jun-2000; LatestRevisionDate: 17-Jul-2002; LatestRevisionNote: Re-released for DXP Platform.; DatasheetDocument: Oct-1992; PackageDocument: Apr-1996; PackageReference: DIP16; Publisher: Altium Limited
footprint DIP16 (DIP; 16 Leads; Row Spacing 7.62 mm; Pitch 2.54 mm)
signal-integrity model M74HC237B1R
pins: 1 A (in), 2 B (in), 3 C (in), 4 ~{LE} (in), 5 ~{G}2 (in), 6 G1 (in), 7 Y7 (out), 8 GND (power), 9 Y6 (out), 10 Y5 (out), 11 Y4 (out), 12 Y3 (out), 13 Y2 (out), 14 Y1 (out), 15 Y0 (out), 16 VCC (power)

## M74HC237C1R
designator U?
3-to-8 Line Decoder Latch; Note: Pins 1, 6, 11 and 16 are not connected and not drawn.; Published: 8-Jun-2000; LatestRevisionDate: 17-Jul-2002; LatestRevisionNote: Re-released for DXP Platform.; DatasheetDocument: Oct-1992; PackageDocument: Mar-1992; PackageReference: PLCC20; Publisher: Altium Limited
footprint PLCC20 (Leaded Chip Carrier; 20 Leads; Body 9 x 9 mm)
signal-integrity model M74HC237C1R
pins: 2 A (in), 3 B (in), 4 C (in), 5 ~{LE} (in), 7 ~{OE}2 (in), 8 OE1 (in), 9 Y7 (out), 10 GND (power), 12 Y6 (out), 13 Y5 (out), 14 Y4 (out), 15 Y3 (out), 17 Y2 (out), 18 Y1 (out), 19 Y0 (out), 20 VCC (power)

## M74HC237M1R
designator U?
3-to-8 Line Decoder Latch; Published: 8-Jun-2000; LatestRevisionDate: 17-Jul-2002; LatestRevisionNote: Re-released for DXP Platform.; DatasheetDocument: Oct-1992; PackageDocument: May-1998; PackageReference: SO16; Publisher: Altium Limited
footprint SO16 (Small Outline; 16 Leads; Body Width 3.9 mm; Pitch 1.27 mm)
signal-integrity model M74HC237M1R
pins: 1 A (in), 2 B (in), 3 C (in), 4 ~{LE} (in), 5 ~{G}2 (in), 6 G1 (in), 7 Y7 (out), 8 GND (power), 9 Y6 (out), 10 Y5 (out), 11 Y4 (out), 12 Y3 (out), 13 Y2 (out), 14 Y1 (out), 15 Y0 (out), 16 VCC (power)

## M74HC238B1R
designator U?
3-to-8 Line Decoder; Published: 8-Jun-2000; LatestRevisionDate: 17-Jul-2002; LatestRevisionNote: Re-released for DXP Platform.; DatasheetDocument: Oct-1993; PackageDocument: Apr-1996; PackageReference: DIP16; Publisher: Altium Limited
footprint DIP16 (DIP; 16 Leads; Row Spacing 7.62 mm; Pitch 2.54 mm)
signal-integrity model M74HC238B1R
pins: 1 A (in), 2 B (in), 3 C (in), 4 ~{OE}2A (in), 5 ~{OE}2B (in), 6 OE1 (in), 7 Y7 (out), 8 GND (power), 9 Y6 (out), 10 Y5 (out), 11 Y4 (out), 12 Y3 (out), 13 Y2 (out), 14 Y1 (out), 15 Y0 (out), 16 VCC (power)

## M74HC238C1R
designator U?
3-to-8 Line Decoder; Note: Pins 1, 6, 11 and 16 are not connected and not drawn.; Published: 8-Jun-2000; LatestRevisionDate: 17-Jul-2002; LatestRevisionNote: Re-released for DXP Platform.; DatasheetDocument: Oct-1993; PackageDocument: Mar-1992; PackageReference: PLCC20; Publisher: Altium Limited
footprint PLCC20 (Leaded Chip Carrier; 20 Leads; Body 9 x 9 mm)
signal-integrity model M74HC238C1R
pins: 2 A (in), 3 B (in), 4 C (in), 5 ~{OE}2A (in), 7 ~{OE}2B (in), 8 OE1 (in), 9 Y7 (out), 10 GND (power), 12 Y6 (out), 13 Y5 (out), 14 Y4 (out), 15 Y3 (out), 17 Y2 (out), 18 Y1 (out), 19 Y0 (out), 20 VCC (power)

## M74HC238M1R
designator U?
3-to-8 Line Decoder; Published: 8-Jun-2000; LatestRevisionDate: 17-Jul-2002; LatestRevisionNote: Re-released for DXP Platform.; DatasheetDocument: Oct-1993; PackageDocument: May-1998; PackageReference: SO16; Publisher: Altium Limited
footprint SO16 (Small Outline; 16 Leads; Body Width 3.9 mm; Pitch 1.27 mm)
signal-integrity model M74HC238M1R
pins: 1 A (in), 2 B (in), 3 C (in), 4 ~{OE}2A (in), 5 ~{OE}2B (in), 6 OE1 (in), 7 Y7 (out), 8 GND (power), 9 Y6 (out), 10 Y5 (out), 11 Y4 (out), 12 Y3 (out), 13 Y2 (out), 14 Y1 (out), 15 Y0 (out), 16 VCC (power)

## M74HC259B1R
designator U?
8-Bit Addressable Latch; Published: 8-Jun-2000; LatestRevisionDate: 17-Jul-2002; LatestRevisionNote: Re-released for DXP Platform.; DatasheetDocument: Oct-1992; PackageDocument: Apr-1996; PackageReference: DIP16; Publisher: Altium Limited
footprint DIP16 (DIP; 16 Leads; Row Spacing 7.62 mm; Pitch 2.54 mm)
signal-integrity model M74HC259B1R
pins: 1 A (in), 2 B (in), 3 C (in), 4 Q0 (out), 5 Q1 (out), 6 Q2 (out), 7 Q3 (out), 8 GND (power), 9 Q4 (out), 10 Q5 (out), 11 Q6 (out), 12 Q7 (out), 13 DI (in), 14 ~{EN} (in), 15 ~{CLR} (in), 16 VDD (power)

## M74HC259C1R
designator U?
8-Bit Addressable Latch; Note: Pins 1, 6, 11 and 16 are not connected and not drawn.; Published: 8-Jun-2000; LatestRevisionDate: 17-Jul-2002; LatestRevisionNote: Re-released for DXP Platform.; DatasheetDocument: Oct-1992; PackageDocument: Mar-1992; PackageReference: PLCC20; Publisher: Altium Limited
footprint PLCC20 (Leaded Chip Carrier; 20 Leads; Body 9 x 9 mm)
signal-integrity model M74HC259C1R
pins: 2 A (in), 3 B (in), 4 C (in), 5 Q0 (out), 7 Q1 (out), 8 Q2 (out), 9 Q3 (out), 10 GND (power), 12 Q4 (out), 13 Q5 (out), 14 Q6 (out), 15 Q7 (out), 17 DI (in), 18 ~{EN} (in), 19 ~{CLR} (in), 20 VCC (power)

## M74HC259M1R
designator U?
8-Bit Addressable Latch; Published: 8-Jun-2000; LatestRevisionDate: 17-Jul-2002; LatestRevisionNote: Re-released for DXP Platform.; DatasheetDocument: Oct-1992; PackageDocument: May-1998; PackageReference: SO16; Publisher: Altium Limited
footprint SO16 (Small Outline; 16 Leads; Body Width 3.9 mm; Pitch 1.27 mm)
signal-integrity model M74HC259M1R
pins: 1 A (in), 2 B (in), 3 C (in), 4 Q0 (out), 5 Q1 (out), 6 Q2 (out), 7 Q3 (out), 8 GND (power), 9 Q4 (out), 10 Q5 (out), 11 Q6 (out), 12 Q7 (out), 13 DI (in), 14 ~{EN} (in), 15 ~{CLR} (in), 16 VDD (power)

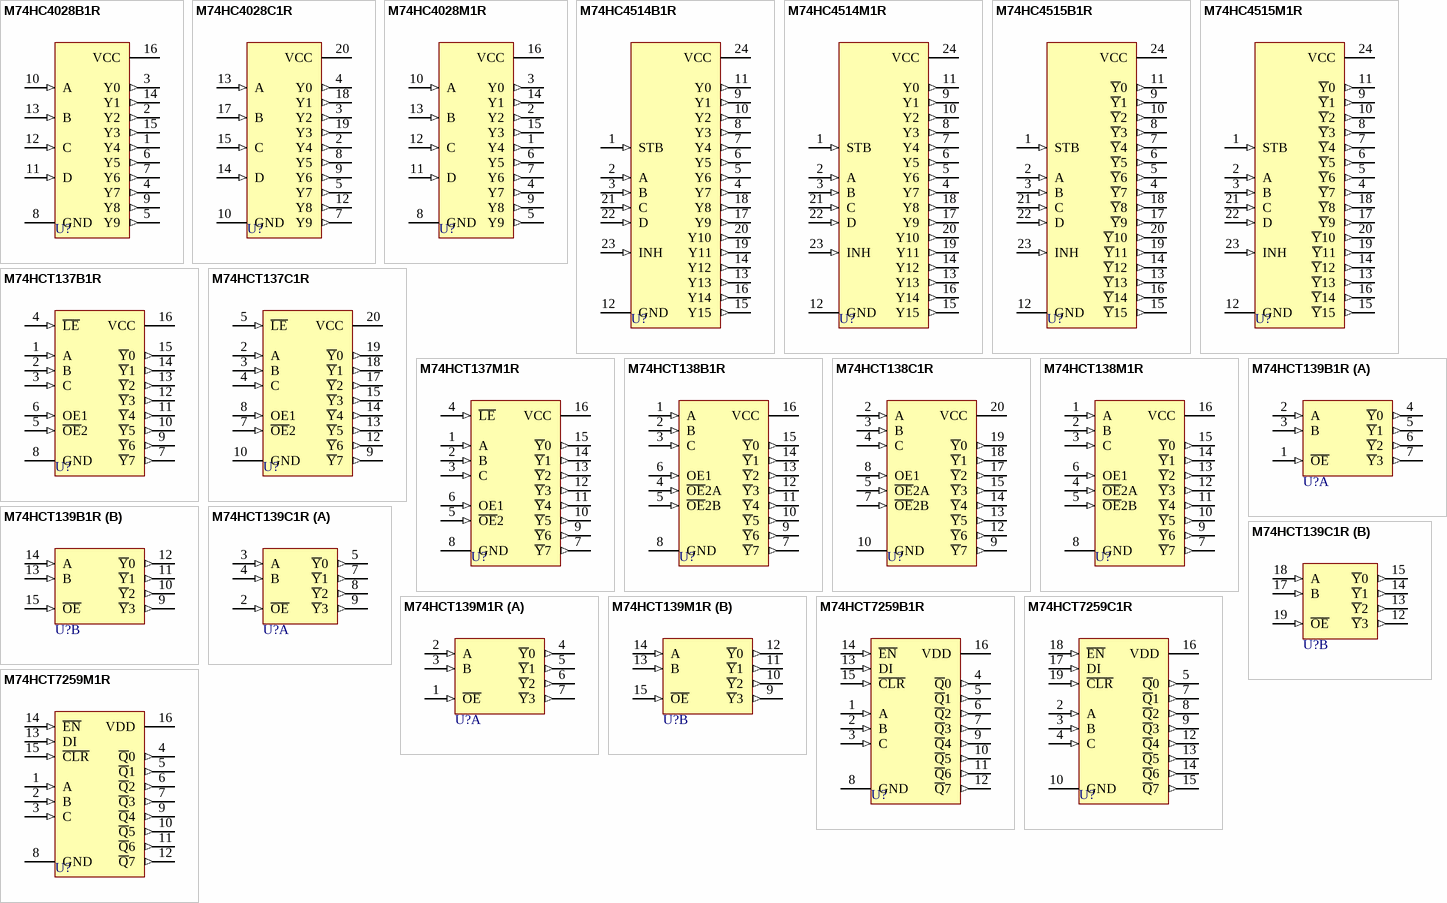
[diagram p2: symbols M74HC4028B1R to M74HCT7259M1R]

## M74HC4028B1R
designator U?
BCD-to-Decimal Decoder; Published: 8-Jun-2000; LatestRevisionDate: 17-Jul-2002; LatestRevisionNote: Re-released for DXP Platform.; DatasheetDocument: Oct-1992; PackageDocument: Apr-1996; PackageReference: DIP16; Publisher: Altium Limited
footprint DIP16 (DIP; 16 Leads; Row Spacing 7.62 mm; Pitch 2.54 mm)
signal-integrity model M74HC4028B1R
pins: 1 Y4 (out), 2 Y2 (out), 3 Y0 (out), 4 Y7 (out), 5 Y9 (out), 6 Y5 (out), 7 Y6 (out), 8 GND (power), 9 Y8 (out), 10 A (in), 11 D (in), 12 C (in), 13 B (in), 14 Y1 (out), 15 Y3 (out), 16 VCC (power)

## M74HC4028C1R
designator U?
BCD-to-Decimal Decoder; Note: Pins 1, 6, 11 and 16 are not connected and not drawn.; Published: 8-Jun-2000; LatestRevisionDate: 17-Jul-2002; LatestRevisionNote: Re-released for DXP Platform.; DatasheetDocument: Oct-1992; PackageDocument: Mar-1992; PackageReference: PLCC20; Publisher: Altium Limited
footprint PLCC20 (Leaded Chip Carrier; 20 Leads; Body 9 x 9 mm)
signal-integrity model M74HC4028C1R
pins: 2 Y4 (out), 3 Y2 (out), 4 Y0 (out), 5 Y7 (out), 7 Y9 (out), 8 Y5 (out), 9 Y6 (out), 10 GND (power), 12 Y8 (out), 13 A (in), 14 D (in), 15 C (in), 17 B (in), 18 Y1 (out), 19 Y3 (out), 20 VCC (power)

## M74HC4028M1R
designator U?
BCD-to-Decimal Decoder; Published: 8-Jun-2000; LatestRevisionDate: 17-Jul-2002; LatestRevisionNote: Re-released for DXP Platform.; DatasheetDocument: Oct-1992; PackageDocument: May-1998; PackageReference: SO16; Publisher: Altium Limited
footprint SO16 (Small Outline; 16 Leads; Body Width 3.9 mm; Pitch 1.27 mm)
signal-integrity model M74HC4028M1R
pins: 1 Y4 (out), 2 Y2 (out), 3 Y0 (out), 4 Y7 (out), 5 Y9 (out), 6 Y5 (out), 7 Y6 (out), 8 GND (power), 9 Y8 (out), 10 A (in), 11 D (in), 12 C (in), 13 B (in), 14 Y1 (out), 15 Y3 (out), 16 VCC (power)

## M74HC4514B1R
designator U?
4-to-16 Line Decoder/Latch; Published: 8-Jun-2000; LatestRevisionDate: 17-Jul-2002; LatestRevisionNote: Re-released for DXP Platform.; DatasheetDocument: Oct-1993; PackageDocument: Jan-1995; PackageReference: PDIP24; Publisher: Altium Limited
footprint PDIP24 (DIP; 24 Leads; Row Spacing 15.24 mm; Pitch 2.54 mm)
signal-integrity model M74HC4514B1R
pins: 1 STB (in), 2 A (in), 3 B (in), 4 Y7 (out), 5 Y6 (out), 6 Y5 (out), 7 Y4 (out), 8 Y3 (out), 9 Y1 (out), 10 Y2 (out), 11 Y0 (out), 12 GND (power), 13 Y13 (out), 14 Y12 (out), 15 Y15 (out), 16 Y14 (out), 17 Y9 (out), 18 Y8 (out), 19 Y11 (out), 20 Y10 (out), 21 C (in), 22 D (in), 23 INH (in), 24 VCC (power)

## M74HC4514M1R
designator U?
4-to-16 Line Decoder/Latch; Published: 8-Jun-2000; LatestRevisionDate: 17-Jul-2002; LatestRevisionNote: Re-released for DXP Platform.; DatasheetDocument: Oct-1993; PackageDocument: Oct-2001; PackageReference: SO24; Publisher: Altium Limited; Code_IPC: SO24W
footprint SO24 (Small Outline, Plastic; 24 Leads; Body Width 7.5 mm; Pitch 1.27 mm)
signal-integrity model M74HC4514M1R
pins: 1 STB (in), 2 A (in), 3 B (in), 4 Y7 (out), 5 Y6 (out), 6 Y5 (out), 7 Y4 (out), 8 Y3 (out), 9 Y1 (out), 10 Y2 (out), 11 Y0 (out), 12 GND (power), 13 Y13 (out), 14 Y12 (out), 15 Y15 (out), 16 Y14 (out), 17 Y9 (out), 18 Y8 (out), 19 Y11 (out), 20 Y10 (out), 21 C (in), 22 D (in), 23 INH (in), 24 VCC (power)

## M74HC4515B1R
designator U?
4-to-16 Line Decoder/Latch (INV); Published: 8-Jun-2000; LatestRevisionDate: 17-Jul-2002; LatestRevisionNote: Re-released for DXP Platform.; DatasheetDocument: Oct-1993; PackageDocument: Jan-1995; PackageReference: PDIP24; Publisher: Altium Limited
footprint PDIP24 (DIP; 24 Leads; Row Spacing 15.24 mm; Pitch 2.54 mm)
signal-integrity model M74HC4515B1R
pins: 1 STB (in), 2 A (in), 3 B (in), 4 ~{Y}7 (out), 5 ~{Y}6 (out), 6 ~{Y}5 (out), 7 ~{Y}4 (out), 8 ~{Y}3 (out), 9 ~{Y}1 (out), 10 ~{Y}2 (out), 11 ~{Y}0 (out), 12 GND (power), 13 ~{Y}13 (out), 14 ~{Y}12 (out), 15 ~{Y}15 (out), 16 ~{Y}14 (out), 17 ~{Y}9 (out), 18 ~{Y}8 (out), 19 ~{Y}11 (out), 20 ~{Y}10 (out), 21 C (in), 22 D (in), 23 INH (in), 24 VCC (power)

## M74HC4515M1R
designator U?
4-to-16 Line Decoder/Latch (INV); Published: 8-Jun-2000; LatestRevisionDate: 17-Jul-2002; LatestRevisionNote: Re-released for DXP Platform.; DatasheetDocument: Oct-1993; PackageDocument: Oct-2001; PackageReference: SO24; Publisher: Altium Limited; Code_IPC: SO24W
footprint SO24 (Small Outline, Plastic; 24 Leads; Body Width 7.5 mm; Pitch 1.27 mm)
signal-integrity model M74HC4515M1R
pins: 1 STB (in), 2 A (in), 3 B (in), 4 ~{Y}7 (out), 5 ~{Y}6 (out), 6 ~{Y}5 (out), 7 ~{Y}4 (out), 8 ~{Y}3 (out), 9 ~{Y}1 (out), 10 ~{Y}2 (out), 11 ~{Y}0 (out), 12 GND (power), 13 ~{Y}13 (out), 14 ~{Y}12 (out), 15 ~{Y}15 (out), 16 ~{Y}14 (out), 17 ~{Y}9 (out), 18 ~{Y}8 (out), 19 ~{Y}11 (out), 20 ~{Y}10 (out), 21 C (in), 22 D (in), 23 INH (in), 24 VCC (power)

## M74HCT137B1R
designator U?
3-to-8 Line Decoder/Latch Inverting; Published: 8-Jun-2000; LatestRevisionDate: 17-Jul-2002; LatestRevisionNote: Re-released for DXP Platform.; DatasheetDocument: Feb-1993; PackageDocument: Apr-1996; PackageReference: DIP16; Publisher: Altium Limited
footprint DIP16 (DIP; 16 Leads; Row Spacing 7.62 mm; Pitch 2.54 mm)
signal-integrity model M74HCT137B1R
pins: 1 A (in), 2 B (in), 3 C (in), 4 ~{LE} (in), 5 ~{OE}2 (in), 6 OE1 (in), 7 ~{Y}7 (out), 8 GND (power), 9 ~{Y}6 (out), 10 ~{Y}5 (out), 11 ~{Y}4 (out), 12 ~{Y}3 (out), 13 ~{Y}2 (out), 14 ~{Y}1 (out), 15 ~{Y}0 (out), 16 VCC (power)

## M74HCT137C1R
designator U?
3-to-8 Line Decoder/Latch Inverting; Note: Pins 1, 6, 11 and 16 are not connected and not drawn.; Published: 8-Jun-2000; LatestRevisionDate: 17-Jul-2002; LatestRevisionNote: Re-released for DXP Platform.; DatasheetDocument: Feb-1993; PackageDocument: Mar-1992; PackageReference: PLCC20; Publisher: Altium Limited
footprint PLCC20 (Leaded Chip Carrier; 20 Leads; Body 9 x 9 mm)
signal-integrity model M74HCT137C1R
pins: 2 A (in), 3 B (in), 4 C (in), 5 ~{LE} (in), 7 ~{OE}2 (in), 8 OE1 (in), 9 ~{Y}7 (out), 10 GND (power), 12 ~{Y}6 (out), 13 ~{Y}5 (out), 14 ~{Y}4 (out), 15 ~{Y}3 (out), 17 ~{Y}2 (out), 18 ~{Y}1 (out), 19 ~{Y}0 (out), 20 VCC (power)